# Altium footprint library FMC_SDR.PcbLib: 29 footprints (part 1 of 2)
Each footprint in its own frame and in the unit in brackets; x right, y up, seen from the top. Pads: shape width x height; smd on the part's side, far side on the other; paste and mask are expansions set on the pad; w line width, h text height; cw(c..) or ccw(c..) is an arc to the next point about the centre after c.
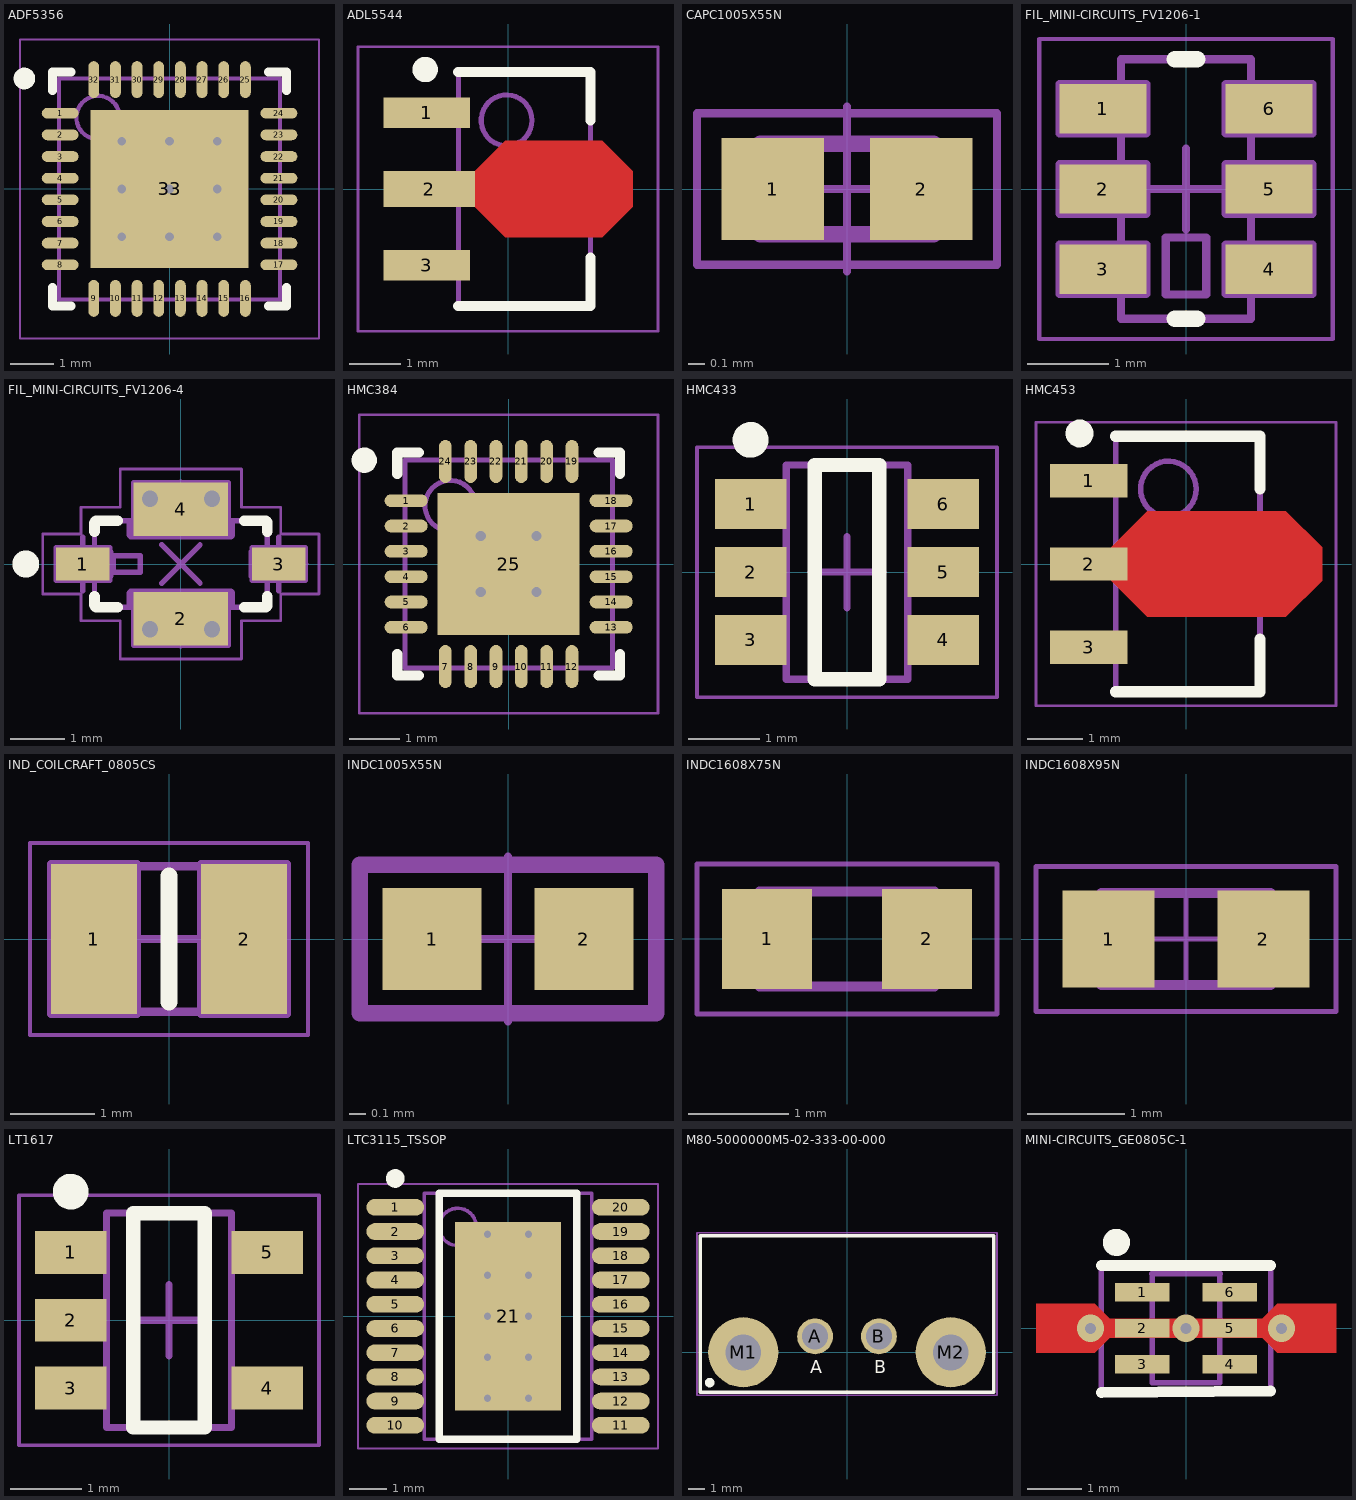
[diagram p0: the footprints below, top view; thin cyan lines are the x and y axes]

## ADF5356 [mm] "QFN, 32-Leads, Body 5,00x5,00mm, Pitch 0,50mm, Thermal Pad 3,65x3,65mm, IPC Low Density"
height 0.8
pads (33):
  oval 0.85x0.25 smd: 1(-2.525,1.75) 2(-2.525,1.25) 3(-2.525,0.75) 4(-2.525,0.25) 5(-2.525,-0.25) 6(-2.525,-0.75) 7(-2.525,-1.25) 8(-2.525,-1.75) 17(2.525,-1.75) 18(2.525,-1.25) 19(2.525,-0.75) 20(2.525,-0.25) 21(2.525,0.25) 22(2.525,0.75) 23(2.525,1.25) 24(2.525,1.75)
  oval 0.25x0.85 smd: 9(-1.75,-2.525) 10(-1.25,-2.525) 11(-0.75,-2.525) 12(-0.25,-2.525) 13(0.25,-2.525) 14(0.75,-2.525) 15(1.25,-2.525) 16(1.75,-2.525) 25(1.75,2.525) 26(1.25,2.525) 27(0.75,2.525) 28(0.25,2.525) 29(-0.25,2.525) 30(-0.75,2.525) 31(-1.25,2.525) 32(-1.75,2.525)
  rect 3.65x3.65 smd: 33(0,0)
via -1.1,1.1 diameter 0.5 hole 0.2
via 0,1.1 diameter 0.5 hole 0.2
via 1.1,1.1 diameter 0.5 hole 0.2
via -1.1,0 diameter 0.5 hole 0.2
via 0,0 diameter 0.5 hole 0.2
via 1.1,0 diameter 0.5 hole 0.2
via -1.1,-1.1 diameter 0.5 hole 0.2
via 0,-1.1 diameter 0.5 hole 0.2
via 1.1,-1.1 diameter 0.5 hole 0.2
Top Overlay:
  circle w0.25: c-3.35,2.55 r0.125
  lines w0.2: -2.7,-2.275 -2.7,-2.7 -2.275,-2.7 ; -2.7,2.275 -2.7,2.7 -2.275,2.7 ; 2.275,-2.7 2.7,-2.7 2.7,-2.275 ; 2.275,2.7 2.7,2.7 2.7,2.275
Mechanical 13:
  circle w0.1: c-1.65,1.65 r0.5
  lines w0.1: -2.55,-2.55 -2.55,2.55 2.55,2.55 2.55,-2.55 -2.55,-2.55
Mechanical 15:
  lines w0.05: -3.45,-3.45 -3.45,3.45 3.45,3.45 3.45,-3.45 -3.45,-3.45
  lines w0.1: -0.5,0 0.5,0 ; 0,-0.5 0,0.5
3D body: height 0.8, standoff 0.01, extent -2.55,-2.55 2.55,2.55

## ADL5544 [mm] "SOT89, 3-Leads, Body 4,50x2,45mm, Pitch 1,50mm, Lead Span 3,5mm, IPC Low Density"
height 1.6
pads (3):
  rect 1.7x0.6 smd: 1(-1.6,1.5) 3(-1.6,-1.5)
  rect 1.8x0.7 smd: 2(-1.55,0)
Top Layer:
  region: -0.65,0.35 -0.05,0.95 1.85,0.95 2.45,0.35 2.45,-0.35 1.85,-0.95 -0.05,-0.95 -0.65,-0.35
Top Overlay:
  circle w0.25: c-1.627,2.35 r0.125
  lines w0.2: -0.978,-2.3 1.623,-2.3 1.623,-1.35 ; -0.978,2.3 1.623,2.3 1.623,1.35
Mechanical 13:
  circle w0.1: c-0.028,1.35 r0.5
  lines w0.1: -0.978,-2.3 -0.978,2.3 1.623,2.3 1.623,-2.3 -0.978,-2.3
Mechanical 15:
  lines w0.05: -2.95,-2.8 -2.95,2.8 2.95,2.8 2.95,-2.8 -2.95,-2.8
  lines w0.1: -0.178,0 0.823,0 ; 0.322,-0.5 0.322,0.5
3D body: height 1.6, standoff 0, extent -0.978,-2.3 1.623,2.3

## CAPC1005X55N [mm] "Capacitor, Non-Polarized, Chip; 1.00mm L X 0.50mm W X 0.70mm H, IPC Medium Density"
height 0.55
pads (2):
  rect 0.62x0.62 smd: 1(-0.45,0) 2(0.45,0)
Mechanical 2:
  lines w0.05: -0.5,0 0.5,0
Mechanical 3:
  lines w0.05: 0,-0.5 0,0.5
Mechanical 4:
  lines w0.05: -0.91,-0.46 -0.91,0.46
Mechanical 5:
  lines w0.05: -0.91,0.46 0.91,0.46
Mechanical 6:
  lines w0.05: 0.91,-0.46 0.91,0.46
Mechanical 7:
  lines w0.05: -0.91,-0.46 0.91,-0.46
Mechanical 14:
  lines w0.1: -0.525,-0.275 0.525,-0.275 0.525,0.275 -0.525,0.275 -0.525,-0.275
3D body "CAPC1005X55N.stp": height 0.55, standoff 0, extent -0.525,-0.275 0.525,0.275

## FIL_MINI-CIRCUITS_FV1206-1 [mm] "MINI-CIRCUITS Case FV1206-1 Body 3.2x1.6mm"
height 0.89
pads (6):
  rect 1.07x0.61 smd: 1(-1.025,0.99) 2(-1.025,0) 3(-1.025,-0.99) 4(1.025,-0.99) 5(1.025,0) 6(1.025,0.99)
Top Overlay:
  lines w0.2: -0.14,-1.6 0.14,-1.6 ; -0.14,1.6 0.14,1.6
Mechanical 8:
  lines w0.1: -0.5,0 0,0 ; 0,-0.5 0,0 ; 0,0.5 0,0 ; 0.5,0 0,0 ; -1.56,-1.295 -0.49,-1.295 -0.49,-0.685 -1.56,-0.685 ; -1.56,-1.295 -1.56,-0.685 ; -1.56,-1.295 -1.025,-0.99 -1.56,-0.685 ; -1.56,-0.305 -0.49,-0.305 -0.49,0.305 -1.56,0.305 ; -1.56,-0.305 -1.56,0.305 ; -1.56,-0.305 -1.025,0 -1.56,0.305 ; -1.56,0.685 -0.49,0.685 -0.49,1.295 -1.56,1.295 ; -1.56,0.685 -1.56,1.295 ; -1.56,0.685 -1.025,0.99 -1.56,1.295 ; 1.56,-1.295 1.56,-0.685 ; 1.56,-1.295 0.49,-1.295 0.49,-0.685 1.56,-0.685 ; 1.56,-1.295 1.025,-0.99 1.56,-0.685 ; 1.56,-0.305 1.56,0.305 ; 1.56,-0.305 0.49,-0.305 0.49,0.305 1.56,0.305 ; 1.56,-0.305 1.025,0 1.56,0.305 ; 1.56,0.685 1.56,1.295 ; 1.56,0.685 0.49,0.685 0.49,1.295 1.56,1.295 ; 1.56,0.685 1.025,0.99 1.56,1.295
Mechanical 14:
  lines w0.1: -0.8,-1.27 -0.62,-1.27 ccw(c-0.62,-1.17) -0.52,-1.17 -0.52,-0.81 ccw(c-0.62,-0.81) -0.62,-0.71 -0.8,-0.71 ; -0.8,-0.28 -0.62,-0.28 ccw(c-0.62,-0.18) -0.52,-0.18 -0.52,0.18 ccw(c-0.62,0.18) -0.62,0.28 -0.8,0.28 ; -0.8,0.71 -0.62,0.71 ccw(c-0.62,0.81) -0.52,0.81 -0.52,1.17 ccw(c-0.62,1.17) -0.62,1.27 -0.8,1.27 ; 0.8,-1.27 0.62,-1.27 cw(c0.62,-1.17) 0.52,-1.17 0.52,-0.81 cw(c0.62,-0.81) 0.62,-0.71 0.8,-0.71 ; 0.8,-0.28 0.62,-0.28 cw(c0.62,-0.18) 0.52,-0.18 0.52,0.18 cw(c0.62,0.18) 0.62,0.28 0.8,0.28 ; 0.8,0.71 0.62,0.71 cw(c0.62,0.81) 0.52,0.81 0.52,1.17 cw(c0.62,1.17) 0.62,1.27 0.8,1.27 ; -0.8,-1.6 -0.8,1.6 0.8,1.6 0.8,-1.6 -0.8,-1.6 ; -0.25,-1.3 0.25,-1.3 0.25,-0.6 -0.25,-0.6 -0.25,-1.3
Mechanical 15:
  lines w0.05: -1.81,-1.85 -1.81,1.85 1.81,1.85 1.81,-1.85 -1.81,-1.85
3D body "FIL_MINI-CIRCUITS_FV1206-1.stp": height 0.89, standoff 0, extent -0.8,-1.6 0.8,1.6

## FIL_MINI-CIRCUITS_FV1206-4 [mm] "MINI-CIRCUITS Case FV1206-4 - Body 3.2x1.6mm"
height 1.04
pads (4):
  rect 0.99x0.61 smd: 1(-1.815,0) 3(1.815,0)
  rect 1.75x0.99 smd: 2(0,-1.015) 4(0,1.015)
via -0.575,1.21 diameter 0.6 hole 0.3
via 0.575,1.21 diameter 0.6 hole 0.3
via -0.575,-1.21 diameter 0.6 hole 0.3
via 0.575,-1.21 diameter 0.6 hole 0.3
Top Overlay:
  circle w0.25: c-2.875,0 r0.125
  lines w0.2: -1.6,-0.605 -1.6,-0.75 ccw(c-1.55,-0.75) -1.55,-0.8 -1.175,-0.8 ; -1.6,0.605 -1.6,0.75 cw(c-1.55,0.75) -1.55,0.8 -1.175,0.8 ; 1.175,-0.8 1.55,-0.8 ccw(c1.55,-0.75) 1.6,-0.75 1.6,-0.605 ; 1.175,0.8 1.55,0.8 cw(c1.55,0.75) 1.6,0.75 1.6,0.605
Mechanical 8:
  circle w0.1: c-0.575,-1.21 r0.3
  circle w0.1: c0.575,-1.21 r0.3
  circle w0.1: c0.575,1.21 r0.3
  circle w0.1: c-0.575,1.21 r0.3
  lines w0.1: -2.315,0 -1.815,0 ; -1.815,-0.5 -1.815,0 ; -1.815,0.5 -1.815,0 ; -1.315,0 -1.815,0 ; -0.875,-1.21 -0.575,-1.21 -0.575,-1.51 ; -0.875,1.21 -0.575,1.21 -0.575,1.51 ; -0.5,-1.015 0,-1.015 ; -0.5,1.015 0,1.015 ; -0.354,-0.354 0,0 ; -0.354,0.354 0,0 ; 0,-1.515 0,-1.015 ; 0,-0.515 0,-1.015 ; 0,0.515 0,1.015 ; 0,1.515 0,1.015 ; 0.354,-0.354 0,0 ; 0.354,0.354 0,0 ; 0.5,-1.015 0,-1.015 ; 0.5,1.015 0,1.015 ; 0.575,-1.51 0.575,-1.21 0.875,-1.21 ; 0.575,1.51 0.575,1.21 0.875,1.21 ; 1.315,0 1.815,0 ; 1.815,-0.5 1.815,0 ; 1.815,0.5 1.815,0 ; 2.315,0 1.815,0 ; -2.31,-0.305 -2.31,0.305 -1.32,0.305 -1.32,-0.305 -2.31,-0.305 ; -0.875,-1.51 -0.875,-0.52 0.875,-0.52 0.875,-1.51 -0.875,-1.51 ; -0.875,0.52 -0.875,1.51 0.875,1.51 0.875,0.52 -0.875,0.52 ; 1.32,-0.305 1.32,0.305 2.31,0.305 2.31,-0.305 1.32,-0.305
Mechanical 14:
  lines w0.1: -1.6,-0.255 -1.35,-0.255 ccw(c-1.35,-0.205) -1.3,-0.205 -1.3,0.205 ccw(c-1.35,0.205) -1.35,0.255 -1.6,0.255 ; -0.955,-0.8 -0.955,-0.55 cw(c-0.905,-0.55) -0.905,-0.5 0.905,-0.5 cw(c0.905,-0.55) 0.955,-0.55 0.955,-0.8 ; -0.955,0.8 -0.955,0.55 ccw(c-0.905,0.55) -0.905,0.5 0.905,0.5 ccw(c0.905,0.55) 0.955,0.55 0.955,0.8 ; 1.6,-0.255 1.35,-0.255 cw(c1.35,-0.205) 1.3,-0.205 1.3,0.205 cw(c1.35,0.205) 1.35,0.255 1.6,0.255 ; -1.6,-0.75 ccw(c-1.55,-0.75) -1.55,-0.8 1.55,-0.8 ccw(c1.55,-0.75) 1.6,-0.75 1.6,0.75 ccw(c1.55,0.75) 1.55,0.8 -1.55,0.8 ccw(c-1.55,0.75) -1.6,0.75 -1.6,-0.75 ; -1.25,-0.15 -0.75,-0.15 -0.75,0.15 -1.25,0.15 -1.25,-0.15
Mechanical 15:
  lines w0.05: -2.56,-0.555 -1.85,-0.555 -1.85,-1.05 -1.125,-1.05 -1.125,-1.76 1.125,-1.76 1.125,-1.05 1.85,-1.05 1.85,-0.555 2.56,-0.555 2.56,0.555 1.85,0.555 1.85,1.05 1.125,1.05 1.125,1.76 -1.125,1.76 -1.125,1.05 -1.85,1.05 -1.85,0.555 -2.56,0.555 -2.56,-0.555
Drill Drawing:
  lines w0.1: -0.875,1.08 -0.875,1.51 0.875,1.51 0.875,1.08 ; -0.875,-1.51 0.875,-1.51 ; -0.875,-1.51 -0.875,-1.08 -0.875,-1.51 ; -0.875,-1.51 0.875,-1.51 ; 0.875,-1.51 0.875,-1.08 0.875,-1.51
  text "Filled and" at -2.4,0.2 h0.5
  text "capped via" at -2.45,-0.55 h0.5
3D body "FIL_MINI-CIRCUITS_FV1206-4.stp": height 1.04, standoff 0, extent -1.6,-0.8 1.6,0.8

## HMC384 [mm]
height 1
pads (25):
  oval 0.85x0.25 smd: 1(-2.025,1.25) 2(-2.025,0.75) 3(-2.025,0.25) 4(-2.025,-0.25) 5(-2.025,-0.75) 6(-2.025,-1.25) 13(2.025,-1.25) 14(2.025,-0.75) 15(2.025,-0.25) 16(2.025,0.25) 17(2.025,0.75) 18(2.025,1.25)
  oval 0.25x0.85 smd: 7(-1.25,-2.025) 8(-0.75,-2.025) 9(-0.25,-2.025) 10(0.25,-2.025) 11(0.75,-2.025) 12(1.25,-2.025) 19(1.25,2.025) 20(0.75,2.025) 21(0.25,2.025) 22(-0.25,2.025) 23(-0.75,2.025) 24(-1.25,2.025)
  rect 2.8x2.8 smd: 25(0,0)
via 0.55,-0.55 diameter 0.5 hole 0.2
via -0.55,-0.55 diameter 0.5 hole 0.2
via 0.55,0.55 diameter 0.5 hole 0.2
via -0.55,0.55 diameter 0.5 hole 0.2
Top Overlay:
  circle w0.25: c-2.85,2.05 r0.125
  lines w0.2: -2.2,-1.775 -2.2,-2.2 -1.775,-2.2 ; -2.2,1.775 -2.2,2.2 -1.775,2.2 ; 1.775,-2.2 2.2,-2.2 2.2,-1.775 ; 1.775,2.2 2.2,2.2 2.2,1.775
Mechanical 13:
  circle w0.1: c-1.15,1.15 r0.5
  lines w0.1: -2.05,-2.05 2.05,-2.05 2.05,2.05 -2.05,2.05 -2.05,-2.05
Mechanical 15:
  lines w0.05: -2.95,-2.95 2.95,-2.95 2.95,2.95 -2.95,2.95 -2.95,-2.95
  lines w0.1: -0.5,0 0.5,0 ; 0,-0.5 0,0.5
3D body: height 1, standoff 0, extent -2.05,-2.05 2.05,2.05

## HMC433 [mm] "SOT23, 6-Leads, Body 2,90x2,80mm, Pitch 0,95mm, IPC Medium Density"
height 1.3
pads (6):
  rect 1x0.7 smd: 1(-1.35,0.95) 2(-1.35,0) 3(-1.35,-0.95) 4(1.35,-0.95) 5(1.35,0) 6(1.35,0.95)
Top Overlay:
  circle w0.25: c-1.35,1.85 r0.125
  lines w0.2: -0.45,-1.5 -0.45,1.5 0.45,1.5 0.45,-1.5 -0.45,-1.5
Mechanical 13:
  lines w0.1: -0.85,-1.5 0.85,-1.5 0.85,1.5 -0.85,1.5 -0.85,-1.5
Mechanical 15:
  lines w0.05: -2.1,-1.75 2.1,-1.75 2.1,1.75 -2.1,1.75 -2.1,-1.75
  lines w0.1: -0.5,0 0.5,0 ; 0,-0.5 0,0.5
3D body: height 1.3, standoff 0.15, extent -0.85,-1.5 0.85,1.5

## HMC453 [mm] "SOT89, 3-Leads, Body 4,50x2,45mm, Pitch 1,50mm, Lead Span 4,0mm, IPC Medium Density"
height 1.6
pads (3):
  rect 1.4x0.6 smd: 1(-1.75,1.5) 2(-1.75,0) 3(-1.75,-1.5)
Top Layer:
  region: -1.35,0.3 -0.7,0.95 1.8,0.95 2.45,0.3 2.45,-0.3 1.8,-0.95 -0.7,-0.95 -1.35,-0.3
Top Overlay:
  circle w0.25: c-1.918,2.35 r0.125
  lines w0.2: -1.268,-2.3 1.332,-2.3 1.332,-1.35 ; -1.268,2.3 1.332,2.3 1.332,1.35
Mechanical 13:
  circle w0.1: c-0.318,1.35 r0.5
  lines w0.1: -1.268,-2.3 -1.268,2.3 1.332,2.3 1.332,-2.3 -1.268,-2.3
Mechanical 15:
  lines w0.05: -2.7,-2.55 -2.7,2.55 2.7,2.55 2.7,-2.55 -2.7,-2.55
  lines w0.1: -0.467,0 0.532,0 ; 0.032,-0.5 0.032,0.5
3D body: height 1.6, standoff 0, extent -1.268,-2.3 1.332,2.3

## IND_COILCRAFT_0805CS [mm] "SMD Inductor  Body Width 1.73mm Body Lenght 2.29mm Height 1.52mm, 0805CS Series"
height 1.52
pads (2):
  rect 1.02x1.78 smd: 1(-0.89,0) 2(0.89,0)
Top Overlay:
  lines w0.2: 0,-0.75 0,0.75
Mechanical 8:
  lines w0.1: -1.39,0 -0.89,0 ; -0.89,-0.5 -0.89,0 ; -0.89,0.5 -0.89,0 ; -0.5,0 0,0 ; -0.39,0 -0.89,0 ; 0,-0.5 0,0 ; 0,0.5 0,0 ; 0.39,0 0.89,0 ; 0.5,0 0,0 ; 0.89,-0.5 0.89,0 ; 0.89,0.5 0.89,0 ; 1.39,0 0.89,0 ; -1.4,-0.89 -1.4,0.89 -0.38,0.89 -0.38,-0.89 -1.4,-0.89 ; 0.38,-0.89 0.38,0.89 1.4,0.89 1.4,-0.89 0.38,-0.89
Mechanical 9:
  lines w0.05: 1.65,-1.14 1.65,1.14
Mechanical 10:
  lines w0.05: -1.65,-1.14 1.65,-1.14
Mechanical 11:
  lines w0.05: -1.65,-1.14 -1.65,1.14
Mechanical 12:
  lines w0.05: -1.65,1.14 1.65,1.14
Mechanical 14:
  lines w0.1: -1.145,-0.863 1.145,-0.863 1.145,0.863 -1.145,0.863 -1.145,-0.863
3D body "IND_COILCRAFT_0805CS.stp": height 1.52, standoff 0, extent -1.144,-0.862 1.145,0.863

## INDC1005X55N [mm] "Chip Inductor, 2-Leads, EIA 0402, Metric 1005, Body 1x0.5mm, 0402IPC Medium Density"
height 0.55
pads (2):
  rect 0.6x0.62 smd: 1(-0.46,0) 2(0.46,0)
Mechanical 14:
  lines w0.1: -0.9,-0.45 0.9,-0.45 0.9,0.45 -0.9,0.45 -0.9,-0.45
Mechanical 16:
  lines w0.05: -0.5,0 0.5,0
Mechanical 17:
  lines w0.05: 0,-0.5 0,0.5
Mechanical 18:
  lines w0.05: -0.91,-0.46 -0.91,0.46
Mechanical 19:
  lines w0.05: -0.91,0.46 0.91,0.46
Mechanical 20:
  lines w0.05: 0.91,-0.46 0.91,0.46
Mechanical 21:
  lines w0.05: -0.91,-0.46 0.91,-0.46
3D body "INDC1005X55N.stp": height 0.55, standoff 0, extent -0.525,-0.275 0.525,0.275

## INDC1608X75N [mm] "Chip Inductor, 2-Leads, EIA 0603, Metric 1608, Body 1.6x0.8mm, IPC Medium Density"
height 0.75
pads (2):
  rect 0.9x1 smd: 1(-0.8,0) 2(0.8,0)
Mechanical 8:
  lines w0.025: -0.575,-0.475 -0.575,0.475 ; 0.575,-0.475 0.575,0.475 ; -0.875,-0.475 -0.875,0.475 0.875,0.475 0.875,-0.475 -0.875,-0.475
Mechanical 14:
  lines w0.1: -0.875,-0.475 0.875,-0.475 0.875,0.475 -0.875,0.475 -0.875,-0.475
Mechanical 22:
  lines w0.05: -1.5,-0.75 1.5,-0.75
Mechanical 23:
  lines w0.05: -1.5,0.75 1.5,0.75
Mechanical 24:
  lines w0.05: 1.5,-0.75 1.5,0.75
Mechanical 25:
  lines w0.05: -1.5,-0.75 -1.5,0.75
3D body "INDC1608X75N.stp": height 0.7, standoff -0.05, extent -0.875,-0.475 0.875,0.475

## INDC1608X95N [mm] "Chip Inductor, 2-Leads, EIA 0603, Metric 1608, Body 1.6x0.8mm, IPC Medium Density"
height 0.95
pads (2):
  rect 0.95x1 smd: 1(-0.8,0) 2(0.8,0)
Mechanical 14:
  lines w0.1: -0.875,-0.475 0.875,-0.475 0.875,0.475 -0.875,0.475 -0.875,-0.475
Mechanical 26:
  lines w0.05: -1.55,-0.75 1.55,-0.75
Mechanical 27:
  lines w0.05: 1.55,-0.75 1.55,0.75
Mechanical 28:
  lines w0.05: -1.55,0.75 1.55,0.75
Mechanical 29:
  lines w0.05: -1.55,-0.75 -1.55,0.75
Mechanical 30:
  lines w0.05: 0,-0.5 0,0.5
Mechanical 31:
  lines w0.05: -0.5,0 0.5,0
3D body "INDC1608X95N.stp": height 0.95, standoff -0.05, extent -0.875,-0.475 0.875,0.475

## LT1617 [mm] "SOT23, 5-Leads, Body 2,90x2,80mm, Pitch 0,95mm, IPC Medium Density"
height 1.5
pads (5):
  rect 1x0.6 smd: 1(-1.375,0.95) 2(-1.375,0) 3(-1.375,-0.95) 4(1.375,-0.95) 5(1.375,0.95)
Top Overlay:
  circle w0.25: c-1.375,1.8 r0.125
  lines w0.2: -0.5,-1.5 0.5,-1.5 0.5,1.5 -0.5,1.5 -0.5,-1.5
Mechanical 13:
  lines w0.1: -0.875,-1.5 -0.875,1.5 0.875,1.5 0.875,-1.5 -0.875,-1.5
Mechanical 15:
  lines w0.05: -2.1,-1.75 -2.1,1.75 2.1,1.75 2.1,-1.75 -2.1,-1.75
  lines w0.1: -0.5,0 0.5,0 ; 0,-0.5 0,0.5
3D body: height 1.5, standoff 0, extent -0.875,-1.5 0.875,1.5

## LTC3115_TSSOP [mm] "TSOP, 20-Leads, Body 6,50x4,40mm, Pitch 0,65mm, Thermal Pad 5,05x2,84mm, IPC Medium Density"
height 1.2
pads (21):
  oval 1.55x0.45 smd: 1(-3.025,2.925) 2(-3.025,2.275) 3(-3.025,1.625) 4(-3.025,0.975) 5(-3.025,0.325) 6(-3.025,-0.325) 7(-3.025,-0.975) 8(-3.025,-1.625) 9(-3.025,-2.275) 10(-3.025,-2.925) 11(3.025,-2.925) 12(3.025,-2.275) 13(3.025,-1.625) 14(3.025,-0.975) 15(3.025,-0.325) 16(3.025,0.325) 17(3.025,0.975) 18(3.025,1.625) 19(3.025,2.275) 20(3.025,2.925)
  rect 2.84x5.05 smd: 21(0,0)
via 0.55,-2.2 diameter 0.5 hole 0.2
via -0.55,-2.2 diameter 0.5 hole 0.2
via 0.55,-1.1 diameter 0.5 hole 0.2
via -0.55,-1.1 diameter 0.5 hole 0.2
via 0.55,0 diameter 0.5 hole 0.2
via -0.55,0 diameter 0.5 hole 0.2
via 0.55,1.1 diameter 0.5 hole 0.2
via -0.55,1.1 diameter 0.5 hole 0.2
via 0.55,2.2 diameter 0.5 hole 0.2
via -0.55,2.2 diameter 0.5 hole 0.2
Top Overlay:
  circle w0.25: c-3.025,3.7 r0.125
  lines w0.2: -1.85,-3.3 1.85,-3.3 1.85,3.3 -1.85,3.3 -1.85,-3.3
Mechanical 13:
  circle w0.1: c-1.35,2.4 r0.5
  lines w0.1: -2.25,-3.3 2.25,-3.3 2.25,3.3 -2.25,3.3 -2.25,-3.3
Mechanical 15:
  lines w0.05: -4.025,-3.55 4.025,-3.55 4.025,3.55 -4.025,3.55 -4.025,-3.55
  lines w0.1: -0.5,0 0.5,0 ; 0,-0.5 0,0.5
3D body: height 1.2, standoff 0.05, extent -2.25,-3.3 2.25,3.3

## M80-5000000M5-02-333-00-000 [mm] "2pin (2 power), THT socket with M2 jackscrews (H=6.05mm, W=18mm, D=8.6mm)"
height 6.05
pads (4):
  round 2.25 hole 1.65: A(-2,1) B(2,1)
  round 4.4 hole 2.25: M1(-6.5,0) M2(6.5,0)
Top Overlay:
  circle w0.3: c-8.6,-1.9 r0.15
  lines w0.2: -9.2,-2.5 9.2,-2.5 9.2,7.3 -9.2,7.3 -9.2,-2.5
  text "A" at -2.3,-1.3 h0.8
  text "B" at 1.7,-1.3 h0.8
Mechanical 38:
  lines w0.1: -9.4,-2.7 9.4,-2.7
Mechanical 39:
  lines w0.1: -9.4,7.5 9.4,7.5
Mechanical 40:
  lines w0.1: 9.4,-2.7 9.4,7.5
Mechanical 41:
  lines w0.1: -9.4,-2.7 -9.4,7.5
3D body "m80-5000000m5-02-333-00-000_asm.stp": height 6.08, standoff -4.67, extent -9,-2 9,7.1

## MINI-CIRCUITS_GE0805C-1 [mm] "MINI-CIRCUITS GE0805C-1 Case, 0.66mm pitch; 6 pin, 2.01mm W X 1.24mm L"
height 0.84
pads (6):
  rect 1x0.34 smd: 1(-0.8,0.66) 2(-0.8,0) 3(-0.8,-0.66) 4(0.8,-0.66) 5(0.8,0) 6(0.8,0.66)
via -1.75,0 diameter 0.5 hole 0.2
via 1.75,0 diameter 0.5 hole 0.2
via 0,0 diameter 0.5 hole 0.2
Top Layer:
  region: 1.75,0.175 1.75,-0.175 -1.925,-0.175 -1.925,0.175
  region: 1.4,0.175 1.675,0.45 2.75,0.45 2.75,-0.45 1.675,-0.45 1.4,-0.175
  region: -1.4,-0.175 -1.675,-0.45 -2.75,-0.45 -2.75,0.45 -1.675,0.45 -1.4,0.175
Top Overlay:
  circle w0.25: c-1.275,1.575 r0.125
  lines w0.2: -1.55,-1.175 1.55,-1.15 ; -1.55,1.15 1.55,1.15
Mechanical 14:
  lines w0.1: -0.625,1 0.625,1 ; -0.62,1 -0.62,-1 0.62,-1 0.62,1
Mechanical 15:
  lines w0.1: -1.55,-1.15 -1.55,1.15 1.55,1.15 1.55,-0.458 1.55,-1.15 -1.55,-1.15
3D body: height 0.84, standoff 0, extent -0.6,-1 0.625,1